# Altium footprint library Connector_JAE.PcbLib: 46 footprints (part 1 of 3)
Each footprint in its own frame and in the unit in brackets; x right, y up, seen from the top. Pads: shape width x height; smd on the part's side, far side on the other; paste and mask are expansions set on the pad; w line width, h text height; cw(c..) or ccw(c..) is an arc to the next point about the centre after c.
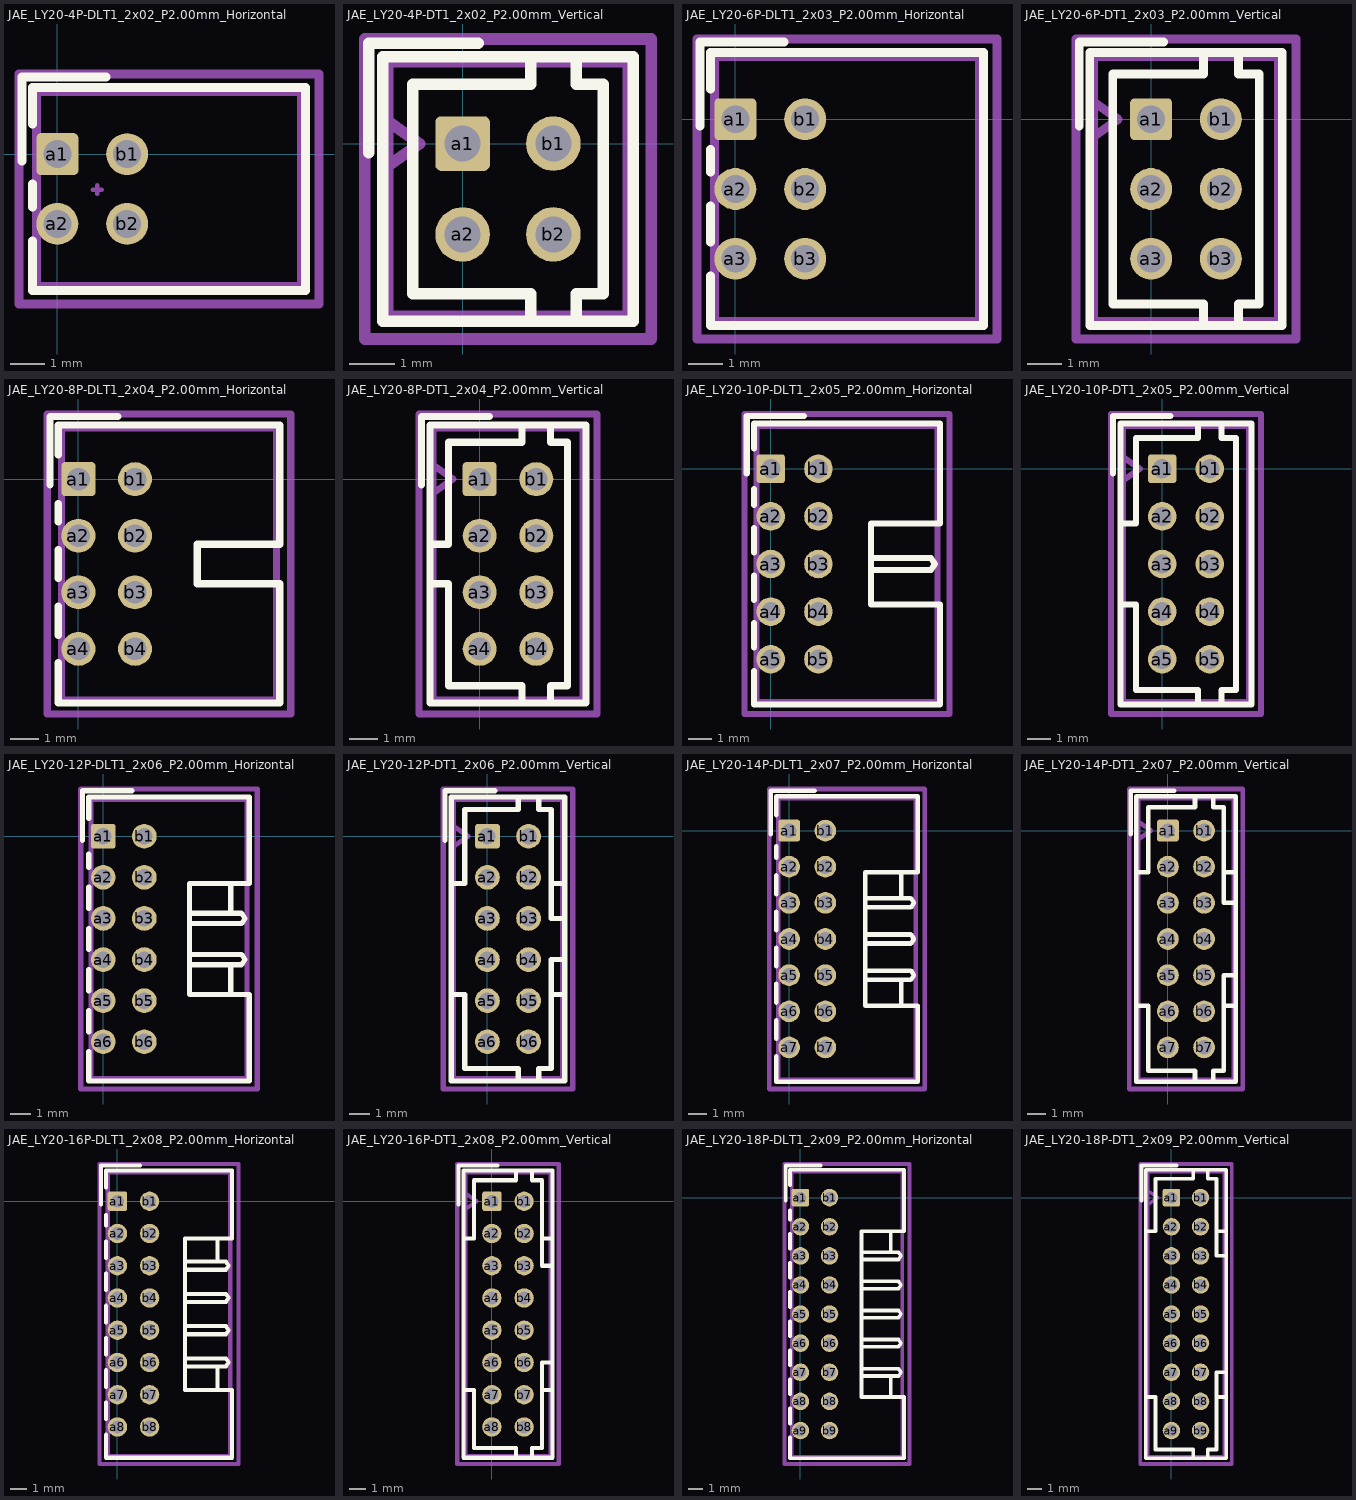
[diagram p0: the footprints below, top view; thin cyan lines are the x and y axes]

## JAE_LY20-4P-DLT1_2x02_P2.00mm_Horizontal [mm]
pads (4):
  rrect21% 1.2x1.2 hole 0.8: a1(0,0)
  round 1.2 hole 0.8: a2(0,-2) b1(2,0) b2(2,-2)
F.SilkS:
  lines w0.254: -1.01,-0.2 -1.01,2.21 1.4,2.21 ; -0.71,-2.485 -0.71,-3.91 7.11,-3.91 7.11,-1 7.11,1.91 -0.71,1.91 -0.71,0.86 ; -0.71,-1.515 -0.71,-0.86
Top Component Center:
  lines w0.127: 1.016,-1.016 1.27,-1.016 ; 1.143,-1.143 1.143,-0.889
Top Assembly:
  lines w0.254: -0.6,-0.5 0.107,0 -0.6,0.5 ; -0.6,-3.8 -0.6,1.8 7,1.8 7,-3.8 -0.6,-3.8
  text "'.Designator'" at -0.847,-3.94 h1
Top Courtyard:
  lines w0.254: -1.1,-4.3 -1.1,2.3 7.5,2.3 7.5,-4.3 -1.1,-4.3
Top Designator:
  text ".Designator" at -4.418,-1.508 h1.52

## JAE_LY20-4P-DT1_2x02_P2.00mm_Vertical [mm]
pads (4):
  rrect21% 1.2x1.2 hole 0.8: a1(0,0)
  round 1.2 hole 0.8: a2(0,-2) b1(2,0) b2(2,-2)
F.SilkS:
  lines w0.254: -2.06,-0.2 -2.06,2.21 0.35,2.21 ; 1.5,-3.91 1.5,-3.3 -1.1,-3.3 -1.1,-1 -1.1,1.3 1.5,1.3 1.5,1.91 ; 2.5,-3.91 2.5,-3.3 3.1,-3.3 3.1,-1 3.1,1.3 2.5,1.3 2.5,1.91 ; -1.76,-3.91 3.76,-3.91 3.76,1.91 -1.76,1.91 -1.76,-3.91
Top Assembly:
  lines w0.254: -1.65,-0.5 -0.943,0 -1.65,0.5 ; -1.65,-3.8 3.65,-3.8 3.65,1.8 -1.65,1.8 -1.65,-3.8
  text "'.Designator'" at 3.79,-5.047 h1
Top Courtyard:
  lines w0.254: -2.15,-4.3 4.15,-4.3 4.15,2.3 -2.15,2.3 -2.15,-4.3
Top Designator:
  text ".Designator" at -6.618,-1.658 h1.52

## JAE_LY20-6P-DLT1_2x03_P2.00mm_Horizontal [mm]
pads (6):
  rrect21% 1.2x1.2 hole 0.8: a1(0,0)
  round 1.2 hole 0.8: a2(0,-2) a3(0,-4) b1(2,0) b2(2,-2) b3(2,-4)
F.SilkS:
  lines w0.254: -1.01,-0.2 -1.01,2.21 1.4,2.21 ; -0.71,-4.485 -0.71,-5.91 7.11,-5.91 7.11,-2 7.11,1.91 -0.71,1.91 -0.71,0.86 ; -0.71,-3.515 -0.71,-2.485 ; -0.71,-1.515 -0.71,-0.86
Top Assembly:
  lines w0.254: -0.6,-0.5 0.107,0 -0.6,0.5 ; -0.6,-5.8 7,-5.8 7,1.8 -0.6,1.8 -0.6,-5.8
  text "'.Designator'" at -0.847,-5.94 h1
Top Courtyard:
  lines w0.254: -1.1,-6.3 7.5,-6.3 7.5,2.3 -1.1,2.3 -1.1,-6.3
Top Designator:
  text ".Designator" at -4.418,-2.508 h1.52

## JAE_LY20-6P-DT1_2x03_P2.00mm_Vertical [mm]
pads (6):
  rrect21% 1.2x1.2 hole 0.8: a1(0,0)
  round 1.2 hole 0.8: a2(0,-2) a3(0,-4) b1(2,0) b2(2,-2) b3(2,-4)
F.SilkS:
  lines w0.254: -2.06,-0.2 -2.06,2.21 0.35,2.21 ; 1.5,-5.91 1.5,-5.3 -1.1,-5.3 -1.1,-2 -1.1,1.3 1.5,1.3 1.5,1.91 ; 2.5,-5.91 2.5,-5.3 3.1,-5.3 3.1,-2 3.1,1.3 2.5,1.3 2.5,1.91 ; -1.76,-5.91 3.76,-5.91 3.76,1.91 -1.76,1.91 -1.76,-5.91
Top Assembly:
  lines w0.254: -1.65,-0.5 -0.943,0 -1.65,0.5 ; -1.65,-5.8 3.65,-5.8 3.65,1.8 -1.65,1.8 -1.65,-5.8
  text "'.Designator'" at 3.79,-6.047 h1
Top Courtyard:
  lines w0.254: -2.15,-6.3 4.15,-6.3 4.15,2.3 -2.15,2.3 -2.15,-6.3
Top Designator:
  text ".Designator" at -6.618,-2.508 h1.52

## JAE_LY20-8P-DLT1_2x04_P2.00mm_Horizontal [mm]
pads (8):
  rrect21% 1.2x1.2 hole 0.8: a1(0,0)
  round 1.2 hole 0.8: a2(0,-2) a3(0,-4) a4(0,-6) b1(2,0) b2(2,-2) b3(2,-4) b4(2,-6)
F.SilkS:
  lines w0.254: -1.01,-0.2 -1.01,2.21 1.4,2.21 ; -0.71,-6.485 -0.71,-7.91 7.11,-7.91 7.11,-3.7 4.2,-3.7 4.2,-3 4.2,-2.3 7.11,-2.3 7.11,1.91 -0.71,1.91 -0.71,0.86 ; -0.71,-5.515 -0.71,-4.485 ; -0.71,-3.515 -0.71,-2.485 ; -0.71,-1.515 -0.71,-0.86
Top Assembly:
  lines w0.254: -0.6,-0.5 0.107,0 -0.6,0.5 ; -0.6,-7.8 7,-7.8 7,1.8 -0.6,1.8 -0.6,-7.8
  text "'.Designator'" at -0.847,-7.94 h1
Top Courtyard:
  lines w0.254: -1.1,-8.3 7.5,-8.3 7.5,2.3 -1.1,2.3 -1.1,-8.3
Top Designator:
  text ".Designator" at -4.418,-3.508 h1.52

## JAE_LY20-8P-DT1_2x04_P2.00mm_Vertical [mm]
pads (8):
  rrect21% 1.2x1.2 hole 0.8: a1(0,0)
  round 1.2 hole 0.8: a2(0,-2) a3(0,-4) a4(0,-6) b1(2,0) b2(2,-2) b3(2,-4) b4(2,-6)
F.SilkS:
  lines w0.254: -2.06,-0.2 -2.06,2.21 0.35,2.21 ; -1.76,-3.7 -1.1,-3.7 -1.1,-7.3 1.5,-7.3 1.5,-7.91 ; -1.76,-2.3 -1.1,-2.3 -1.1,1.3 1.5,1.3 1.5,1.91 ; 2.5,-7.91 2.5,-7.3 3.1,-7.3 3.1,-3 3.1,1.3 2.5,1.3 2.5,1.91 ; -1.76,-7.91 3.76,-7.91 3.76,1.91 -1.76,1.91 -1.76,-7.91
Top Assembly:
  lines w0.254: -1.65,-0.5 -0.943,0 -1.65,0.5 ; -1.65,-7.8 3.65,-7.8 3.65,1.8 -1.65,1.8 -1.65,-7.8
  text "'.Designator'" at 3.79,-7.047 h1
Top Courtyard:
  lines w0.254: -2.15,-8.3 4.15,-8.3 4.15,2.3 -2.15,2.3 -2.15,-8.3
Top Designator:
  text ".Designator" at -6.618,-3.508 h1.52

## JAE_LY20-10P-DLT1_2x05_P2.00mm_Horizontal [mm]
pads (10):
  rrect21% 1.2x1.2 hole 0.8: a1(0,0)
  round 1.2 hole 0.8: a2(0,-2) a3(0,-4) a4(0,-6) a5(0,-8) b1(2,0) b2(2,-2) b3(2,-4) b4(2,-6) b5(2,-8)
F.SilkS:
  lines w0.254: -1.01,-0.2 -1.01,2.21 1.4,2.21 ; -0.71,-8.485 -0.71,-9.91 7.11,-9.91 7.11,-5.7 4.2,-5.7 4.2,-4 4.2,-2.3 7.11,-2.3 7.11,1.91 -0.71,1.91 -0.71,0.86 ; -0.71,-7.515 -0.71,-6.485 ; -0.71,-5.515 -0.71,-4.485 ; -0.71,-3.515 -0.71,-2.485 ; -0.71,-1.515 -0.71,-0.86 ; 4.2,-4.25 6.733,-4.25 6.9,-4 6.733,-3.75 4.2,-3.75
Top Assembly:
  lines w0.254: -0.6,-0.5 0.107,0 -0.6,0.5 ; -0.6,-9.8 7,-9.8 7,1.8 -0.6,1.8 -0.6,-9.8
  text "'.Designator'" at -0.847,-9.94 h1
Top Courtyard:
  lines w0.254: -1.1,-10.3 7.5,-10.3 7.5,2.3 -1.1,2.3 -1.1,-10.3
Top Designator:
  text ".Designator" at -4.418,-4.508 h1.52

## JAE_LY20-10P-DT1_2x05_P2.00mm_Vertical [mm]
pads (10):
  rrect21% 1.2x1.2 hole 0.8: a1(0,0)
  round 1.2 hole 0.8: a2(0,-2) a3(0,-4) a4(0,-6) a5(0,-8) b1(2,0) b2(2,-2) b3(2,-4) b4(2,-6) b5(2,-8)
F.SilkS:
  lines w0.254: -2.06,-0.2 -2.06,2.21 0.35,2.21 ; -1.76,-5.7 -1.1,-5.7 -1.1,-9.3 1.5,-9.3 1.5,-9.91 ; -1.76,-2.3 -1.1,-2.3 -1.1,1.3 1.5,1.3 1.5,1.91 ; 2.5,-9.91 2.5,-9.3 3.1,-9.3 3.1,-4 3.1,1.3 2.5,1.3 2.5,1.91 ; -1.76,-9.91 3.76,-9.91 3.76,1.91 -1.76,1.91 -1.76,-9.91
Top Assembly:
  lines w0.254: -1.65,-0.5 -0.943,0 -1.65,0.5 ; -1.65,-9.8 3.65,-9.8 3.65,1.8 -1.65,1.8 -1.65,-9.8
  text "'.Designator'" at 3.79,-8.047 h1
Top Courtyard:
  lines w0.254: -2.15,-10.3 4.15,-10.3 4.15,2.3 -2.15,2.3 -2.15,-10.3
Top Designator:
  text ".Designator" at -6.618,-4.508 h1.52

## JAE_LY20-12P-DLT1_2x06_P2.00mm_Horizontal [mm]
pads (12):
  rrect21% 1.2x1.2 hole 0.8: a1(0,0)
  round 1.2 hole 0.8: a2(0,-2) a3(0,-4) a4(0,-6) a5(0,-8) a6(0,-10) b1(2,0) b2(2,-2) b3(2,-4) b4(2,-6) b5(2,-8) b6(2,-10)
F.SilkS:
  lines w0.254: -1.01,-0.2 -1.01,2.21 1.4,2.21 ; -0.71,-10.485 -0.71,-11.91 7.11,-11.91 7.11,-7.7 4.2,-7.7 4.2,-5 4.2,-2.3 7.11,-2.3 7.11,1.91 -0.71,1.91 -0.71,0.86 ; -0.71,-9.515 -0.71,-8.485 ; -0.71,-7.515 -0.71,-6.485 ; -0.71,-5.515 -0.71,-4.485 ; -0.71,-3.515 -0.71,-2.485 ; -0.71,-1.515 -0.71,-0.86 ; 4.2,-6.25 6.733,-6.25 6.9,-6 6.733,-5.75 4.2,-5.75 ; 4.2,-4.25 6.733,-4.25 6.9,-4 6.733,-3.75 4.2,-3.75 ; 6.2,-7.7 6.2,-6.25 ; 6.2,-3.75 6.2,-2.3
Top Assembly:
  lines w0.254: -0.6,-0.5 0.107,0 -0.6,0.5 ; -0.6,-11.8 7,-11.8 7,1.8 -0.6,1.8 -0.6,-11.8
  text "'.Designator'" at -0.847,-11.94 h1
Top Courtyard:
  lines w0.254: -1.1,-12.3 7.5,-12.3 7.5,2.3 -1.1,2.3 -1.1,-12.3
Top Designator:
  text ".Designator" at -4.418,-5.508 h1.52

## JAE_LY20-12P-DT1_2x06_P2.00mm_Vertical [mm]
pads (12):
  rrect21% 1.2x1.2 hole 0.8: a1(0,0)
  round 1.2 hole 0.8: a2(0,-2) a3(0,-4) a4(0,-6) a5(0,-8) a6(0,-10) b1(2,0) b2(2,-2) b3(2,-4) b4(2,-6) b5(2,-8) b6(2,-10)
F.SilkS:
  lines w0.254: -2.06,-0.2 -2.06,2.21 0.35,2.21 ; -1.76,-7.7 -1.1,-7.7 -1.1,-11.3 1.5,-11.3 1.5,-11.91 ; -1.76,-2.3 -1.1,-2.3 -1.1,1.3 1.5,1.3 1.5,1.91 ; 2.5,-11.91 2.5,-11.3 3.1,-11.3 3.1,-6 3.76,-6 ; 2.5,1.91 2.5,1.3 3.1,1.3 3.1,-4 3.76,-4 ; 3.1,-7.7 3.76,-7.7 ; 3.1,-2.3 3.76,-2.3 ; -1.76,-11.91 3.76,-11.91 3.76,1.91 -1.76,1.91 -1.76,-11.91
Top Assembly:
  lines w0.254: -1.65,-0.5 -0.943,0 -1.65,0.5 ; -1.65,-11.8 3.65,-11.8 3.65,1.8 -1.65,1.8 -1.65,-11.8
  text "'.Designator'" at 3.79,-9.047 h1
Top Courtyard:
  lines w0.254: -2.15,-12.3 4.15,-12.3 4.15,2.3 -2.15,2.3 -2.15,-12.3
Top Designator:
  text ".Designator" at -6.618,-5.508 h1.52

## JAE_LY20-14P-DLT1_2x07_P2.00mm_Horizontal [mm]
pads (14):
  rrect21% 1.2x1.2 hole 0.8: a1(0,0)
  round 1.2 hole 0.8: a2(0,-2) a3(0,-4) a4(0,-6) a5(0,-8) a6(0,-10) a7(0,-12) b1(2,0) b2(2,-2) b3(2,-4) b4(2,-6) b5(2,-8) b6(2,-10) b7(2,-12)
F.SilkS:
  lines w0.254: -1.01,-0.2 -1.01,2.21 1.4,2.21 ; -0.71,-12.485 -0.71,-13.91 7.11,-13.91 7.11,-9.7 4.2,-9.7 4.2,-6 4.2,-2.3 7.11,-2.3 7.11,1.91 -0.71,1.91 -0.71,0.86 ; -0.71,-11.515 -0.71,-10.485 ; -0.71,-9.515 -0.71,-8.485 ; -0.71,-7.515 -0.71,-6.485 ; -0.71,-5.515 -0.71,-4.485 ; -0.71,-3.515 -0.71,-2.485 ; -0.71,-1.515 -0.71,-0.86 ; 4.2,-8.25 6.733,-8.25 6.9,-8 6.733,-7.75 4.2,-7.75 ; 4.2,-6.25 6.733,-6.25 6.9,-6 6.733,-5.75 4.2,-5.75 ; 4.2,-4.25 6.733,-4.25 6.9,-4 6.733,-3.75 4.2,-3.75 ; 6.2,-9.7 6.2,-8.25 ; 6.2,-3.75 6.2,-2.3
Top Assembly:
  lines w0.254: -0.6,-0.5 0.107,0 -0.6,0.5 ; -0.6,-13.8 7,-13.8 7,1.8 -0.6,1.8 -0.6,-13.8
  text "'.Designator'" at -0.847,-13.94 h1
Top Courtyard:
  lines w0.254: -1.1,-14.3 7.5,-14.3 7.5,2.3 -1.1,2.3 -1.1,-14.3
Top Designator:
  text ".Designator" at -4.418,-6.508 h1.52

## JAE_LY20-14P-DT1_2x07_P2.00mm_Vertical [mm]
pads (14):
  rrect21% 1.2x1.2 hole 0.8: a1(0,0)
  round 1.2 hole 0.8: a2(0,-2) a3(0,-4) a4(0,-6) a5(0,-8) a6(0,-10) a7(0,-12) b1(2,0) b2(2,-2) b3(2,-4) b4(2,-6) b5(2,-8) b6(2,-10) b7(2,-12)
F.SilkS:
  lines w0.254: -2.06,-0.2 -2.06,2.21 0.35,2.21 ; -1.76,-9.7 -1.1,-9.7 -1.1,-13.3 1.5,-13.3 1.5,-13.91 ; -1.76,-2.3 -1.1,-2.3 -1.1,1.3 1.5,1.3 1.5,1.91 ; 2.5,-13.91 2.5,-13.3 3.1,-13.3 3.1,-8 3.76,-8 ; 2.5,1.91 2.5,1.3 3.1,1.3 3.1,-4 3.76,-4 ; 3.1,-9.7 3.76,-9.7 ; 3.1,-2.3 3.76,-2.3 ; -1.76,-13.91 3.76,-13.91 3.76,1.91 -1.76,1.91 -1.76,-13.91
Top Assembly:
  lines w0.254: -1.65,-0.5 -0.943,0 -1.65,0.5 ; -1.65,-13.8 3.65,-13.8 3.65,1.8 -1.65,1.8 -1.65,-13.8
  text "'.Designator'" at 3.79,-10.047 h1
Top Courtyard:
  lines w0.254: -2.15,-14.3 4.15,-14.3 4.15,2.3 -2.15,2.3 -2.15,-14.3
Top Designator:
  text ".Designator" at -6.618,-6.508 h1.52

## JAE_LY20-16P-DLT1_2x08_P2.00mm_Horizontal [mm]
pads (16):
  rrect21% 1.2x1.2 hole 0.8: a1(0,0)
  round 1.2 hole 0.8: a2(0,-2) a3(0,-4) a4(0,-6) a5(0,-8) a6(0,-10) a7(0,-12) a8(0,-14) b1(2,0) b2(2,-2) b3(2,-4) b4(2,-6) b5(2,-8) b6(2,-10) b7(2,-12) b8(2,-14)
F.SilkS:
  lines w0.254: -1.01,-0.2 -1.01,2.21 1.4,2.21 ; -0.71,-14.485 -0.71,-15.91 7.11,-15.91 7.11,-11.7 4.2,-11.7 4.2,-7 4.2,-2.3 7.11,-2.3 7.11,1.91 -0.71,1.91 -0.71,0.86 ; -0.71,-13.515 -0.71,-12.485 ; -0.71,-11.515 -0.71,-10.485 ; -0.71,-9.515 -0.71,-8.485 ; -0.71,-7.515 -0.71,-6.485 ; -0.71,-5.515 -0.71,-4.485 ; -0.71,-3.515 -0.71,-2.485 ; -0.71,-1.515 -0.71,-0.86 ; 4.2,-10.25 6.733,-10.25 6.9,-10 6.733,-9.75 4.2,-9.75 ; 4.2,-8.25 6.733,-8.25 6.9,-8 6.733,-7.75 4.2,-7.75 ; 4.2,-6.25 6.733,-6.25 6.9,-6 6.733,-5.75 4.2,-5.75 ; 4.2,-4.25 6.733,-4.25 6.9,-4 6.733,-3.75 4.2,-3.75 ; 6.2,-11.7 6.2,-10.25 ; 6.2,-3.75 6.2,-2.3
Top Assembly:
  lines w0.254: -0.6,-0.5 0.107,0 -0.6,0.5 ; -0.6,-15.8 7,-15.8 7,1.8 -0.6,1.8 -0.6,-15.8
  text "'.Designator'" at -0.847,-15.94 h1
Top Courtyard:
  lines w0.254: -1.1,-16.3 7.5,-16.3 7.5,2.31 -1.1,2.31 -1.1,-16.3
Top Designator:
  text ".Designator" at -4.418,-7.503 h1.52

## JAE_LY20-16P-DT1_2x08_P2.00mm_Vertical [mm]
pads (16):
  rrect21% 1.2x1.2 hole 0.8: a1(0,0)
  round 1.2 hole 0.8: a2(0,-2) a3(0,-4) a4(0,-6) a5(0,-8) a6(0,-10) a7(0,-12) a8(0,-14) b1(2,0) b2(2,-2) b3(2,-4) b4(2,-6) b5(2,-8) b6(2,-10) b7(2,-12) b8(2,-14)
F.SilkS:
  lines w0.254: -2.06,-0.2 -2.06,2.21 0.35,2.21 ; -1.76,-11.7 -1.1,-11.7 -1.1,-15.3 1.5,-15.3 1.5,-15.91 ; -1.76,-2.3 -1.1,-2.3 -1.1,1.3 1.5,1.3 1.5,1.91 ; 2.5,-15.91 2.5,-15.3 3.1,-15.3 3.1,-10 3.76,-10 ; 2.5,1.91 2.5,1.3 3.1,1.3 3.1,-4 3.76,-4 ; 3.1,-11.7 3.76,-11.7 ; 3.1,-2.3 3.76,-2.3 ; -1.76,-15.91 3.76,-15.91 3.76,1.91 -1.76,1.91 -1.76,-15.91
Top Assembly:
  lines w0.254: -1.65,-0.5 -0.943,0 -1.65,0.5 ; -1.65,-15.8 3.65,-15.8 3.65,1.8 -1.65,1.8 -1.65,-15.8
  text "'.Designator'" at 3.79,-11.047 h1
Top Courtyard:
  lines w0.254: -2.15,-16.3 4.15,-16.3 4.15,2.31 -2.15,2.31 -2.15,-16.3
Top Designator:
  text ".Designator" at -6.618,-7.503 h1.52

## JAE_LY20-18P-DLT1_2x09_P2.00mm_Horizontal [mm]
pads (18):
  rrect21% 1.2x1.2 hole 0.8: a1(0,0)
  round 1.2 hole 0.8: a2(0,-2) a3(0,-4) a4(0,-6) a5(0,-8) a6(0,-10) a7(0,-12) a8(0,-14) a9(0,-16) b1(2,0) b2(2,-2) b3(2,-4) b4(2,-6) b5(2,-8) b6(2,-10) b7(2,-12) b8(2,-14) b9(2,-16)
F.SilkS:
  lines w0.254: -1.01,-0.2 -1.01,2.21 1.4,2.21 ; -0.71,-16.485 -0.71,-17.91 7.11,-17.91 7.11,-13.7 4.2,-13.7 4.2,-8 4.2,-2.3 7.11,-2.3 7.11,1.91 -0.71,1.91 -0.71,0.86 ; -0.71,-15.515 -0.71,-14.485 ; -0.71,-13.515 -0.71,-12.485 ; -0.71,-11.515 -0.71,-10.485 ; -0.71,-9.515 -0.71,-8.485 ; -0.71,-7.515 -0.71,-6.485 ; -0.71,-5.515 -0.71,-4.485 ; -0.71,-3.515 -0.71,-2.485 ; -0.71,-1.515 -0.71,-0.86 ; 4.2,-12.25 6.733,-12.25 6.9,-12 6.733,-11.75 4.2,-11.75 ; 4.2,-10.25 6.733,-10.25 6.9,-10 6.733,-9.75 4.2,-9.75 ; 4.2,-8.25 6.733,-8.25 6.9,-8 6.733,-7.75 4.2,-7.75 ; 4.2,-6.25 6.733,-6.25 6.9,-6 6.733,-5.75 4.2,-5.75 ; 4.2,-4.25 6.733,-4.25 6.9,-4 6.733,-3.75 4.2,-3.75 ; 6.2,-13.7 6.2,-12.25 ; 6.2,-3.75 6.2,-2.3
Top Assembly:
  lines w0.254: -0.6,-0.5 0.107,0 -0.6,0.5 ; -0.6,-17.8 7,-17.8 7,1.8 -0.6,1.8 -0.6,-17.8
  text "'.Designator'" at -0.847,-17.94 h1
Top Courtyard:
  lines w0.254: -1.1,-18.3 7.5,-18.3 7.5,2.31 -1.1,2.31 -1.1,-18.3
Top Designator:
  text ".Designator" at -4.418,-8.503 h1.52

## JAE_LY20-18P-DT1_2x09_P2.00mm_Vertical [mm]
pads (18):
  rrect21% 1.2x1.2 hole 0.8: a1(0,0)
  round 1.2 hole 0.8: a2(0,-2) a3(0,-4) a4(0,-6) a5(0,-8) a6(0,-10) a7(0,-12) a8(0,-14) a9(0,-16) b1(2,0) b2(2,-2) b3(2,-4) b4(2,-6) b5(2,-8) b6(2,-10) b7(2,-12) b8(2,-14) b9(2,-16)
F.SilkS:
  lines w0.254: -2.06,-0.2 -2.06,2.21 0.35,2.21 ; -1.76,-13.7 -1.1,-13.7 -1.1,-17.3 1.5,-17.3 1.5,-17.91 ; -1.76,-2.3 -1.1,-2.3 -1.1,1.3 1.5,1.3 1.5,1.91 ; 2.5,-17.91 2.5,-17.3 3.1,-17.3 3.1,-12 3.76,-12 ; 2.5,1.91 2.5,1.3 3.1,1.3 3.1,-4 3.76,-4 ; 3.1,-13.7 3.76,-13.7 ; 3.1,-2.3 3.76,-2.3 ; -1.76,-17.91 3.76,-17.91 3.76,1.91 -1.76,1.91 -1.76,-17.91
Top Assembly:
  lines w0.254: -1.65,-0.5 -0.943,0 -1.65,0.5 ; -1.65,-17.8 3.65,-17.8 3.65,1.8 -1.65,1.8 -1.65,-17.8
  text "'.Designator'" at 3.79,-12.047 h1
Top Courtyard:
  lines w0.254: -2.15,-18.3 4.15,-18.3 4.15,2.31 -2.15,2.31 -2.15,-18.3
Top Designator:
  text ".Designator" at -6.618,-8.503 h1.52